# Altium footprint library XT+PHOENIX.PcbLib: 2 footprints
Each footprint in its own frame and in the unit in brackets; x right, y up, seen from the top. Pads: shape width x height; smd on the part's side, far side on the other; paste and mask are expansions set on the pad; w line width, h text height; cw(c..) or ccw(c..) is an arc to the next point about the centre after c.
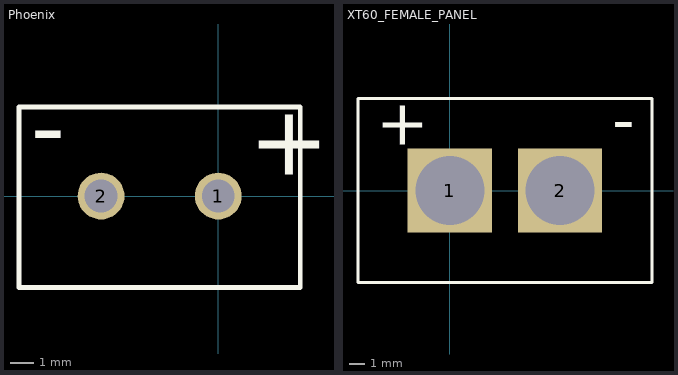
[diagram p0: the footprints below, top view; thin cyan lines are the x and y axes]

## Phoenix [mm]
pads (2):
  round 2 hole 1.4 paste-2539.97: 1(0,0) 2(-5,0)
Top Overlay:
  lines w0.2: -8.5,-3.9 3.5,-3.9 3.5,3.8 -8.5,3.8 -8.5,-3.9
  text "+" at 1.3,0.9 h3
  text "-" at -8,1.5 h3
3D body "1755516.stp": height 12.1, standoff -3.8, extent -8.5,-3.87 3.5,4.7

## XT60_FEMALE_PANEL [mm]
pads (2):
  rect 5.5x5.5 hole 4.5 paste-2539.97: 1(0,0) 2(7.2,0)
Top Overlay:
  lines w0.2: -6,-6 13.2,-6 13.2,6 -6,6 -6,-6
  text "+" at -4.8,3 h3
  text "-" at 10.6,3.2 h3
3D body "XT60E-F-2 v8.step": height 15.5, standoff -4.4, extent -13.45,-7.875 20.55,7.875